# Altium footprint library PCB - CONNECTOR - WURTH - WURTH 61400826021.PCBLIB: 1 footprints
Each footprint in its own frame and in the unit in brackets; x right, y up, seen from the top. Pads: shape width x height; smd on the part's side, far side on the other; paste and mask are expansions set on the pad; w line width, h text height; cw(c..) or ccw(c..) is an arc to the next point about the centre after c.
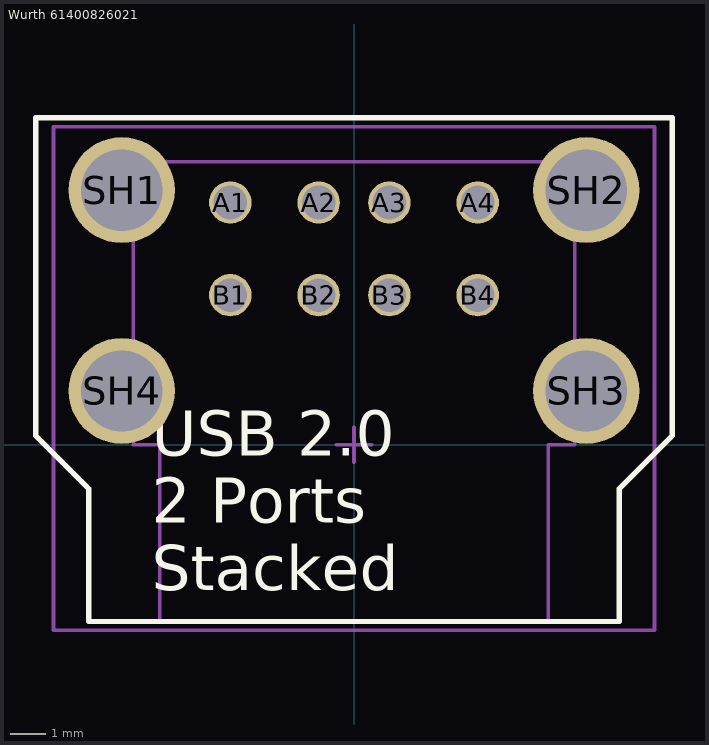
[diagram p0: the footprint, top view; thin cyan lines are the x and y axes]

## Wurth 61400826021 [mm] "USB 2.0, 2 Ports Stacked, Right Angle Through hole"
height 15.6
pads (12):
  round 1.2 hole 0.95 unplated: A1(-3.5,6.85) A2(-1,6.85) A3(1,6.85) A4(3.5,6.85) B1(-3.5,4.23) B2(-1,4.23) B3(1,4.23) B4(3.5,4.23)
  round 3 hole 2.3 unplated: SH1(-6.57,7.2) SH2(6.57,7.2) SH3(6.57,1.52) SH4(-6.57,1.52)
Top Overlay:
  lines w0.15: -9,0.25 -9,9.25 9,9.25 9,0.25 7.5,-1.25 7.5,-5 -7.5,-5 -7.5,-1.25 -9,0.25
  text "USB 2.0 / 2 Ports / Stacked" at -5.715,-4.117 h1.27
Mechanical 13:
  lines w0.1: -6.25,0 -5.5,0 -5.5,-5 5.5,-5 5.5,0 6.25,0 6.25,8 -6.25,8 -6.25,0
Mechanical 15:
  lines w0.1: -0.5,0 0.5,0 ; 0,-0.5 0,0.5 ; -8.5,-5.25 -8.5,9 8.5,9 8.5,-5.25 -8.5,-5.25
3D body "Wurth - 61400826021 (rev1).stp": height 16.09, standoff -3.76, extent -7.913,-8.655 7.913,8.495